# Altium footprint library WR-TBL_Spring Clamp_3.81mm.PcbLib: 32 footprints (part 1 of 2)
Each footprint in its own frame and in the unit in brackets; x right, y up, seen from the top. Pads: shape width x height; smd on the part's side, far side on the other; paste and mask are expansions set on the pad; w line width, h text height; cw(c..) or ccw(c..) is an arc to the next point about the centre after c.
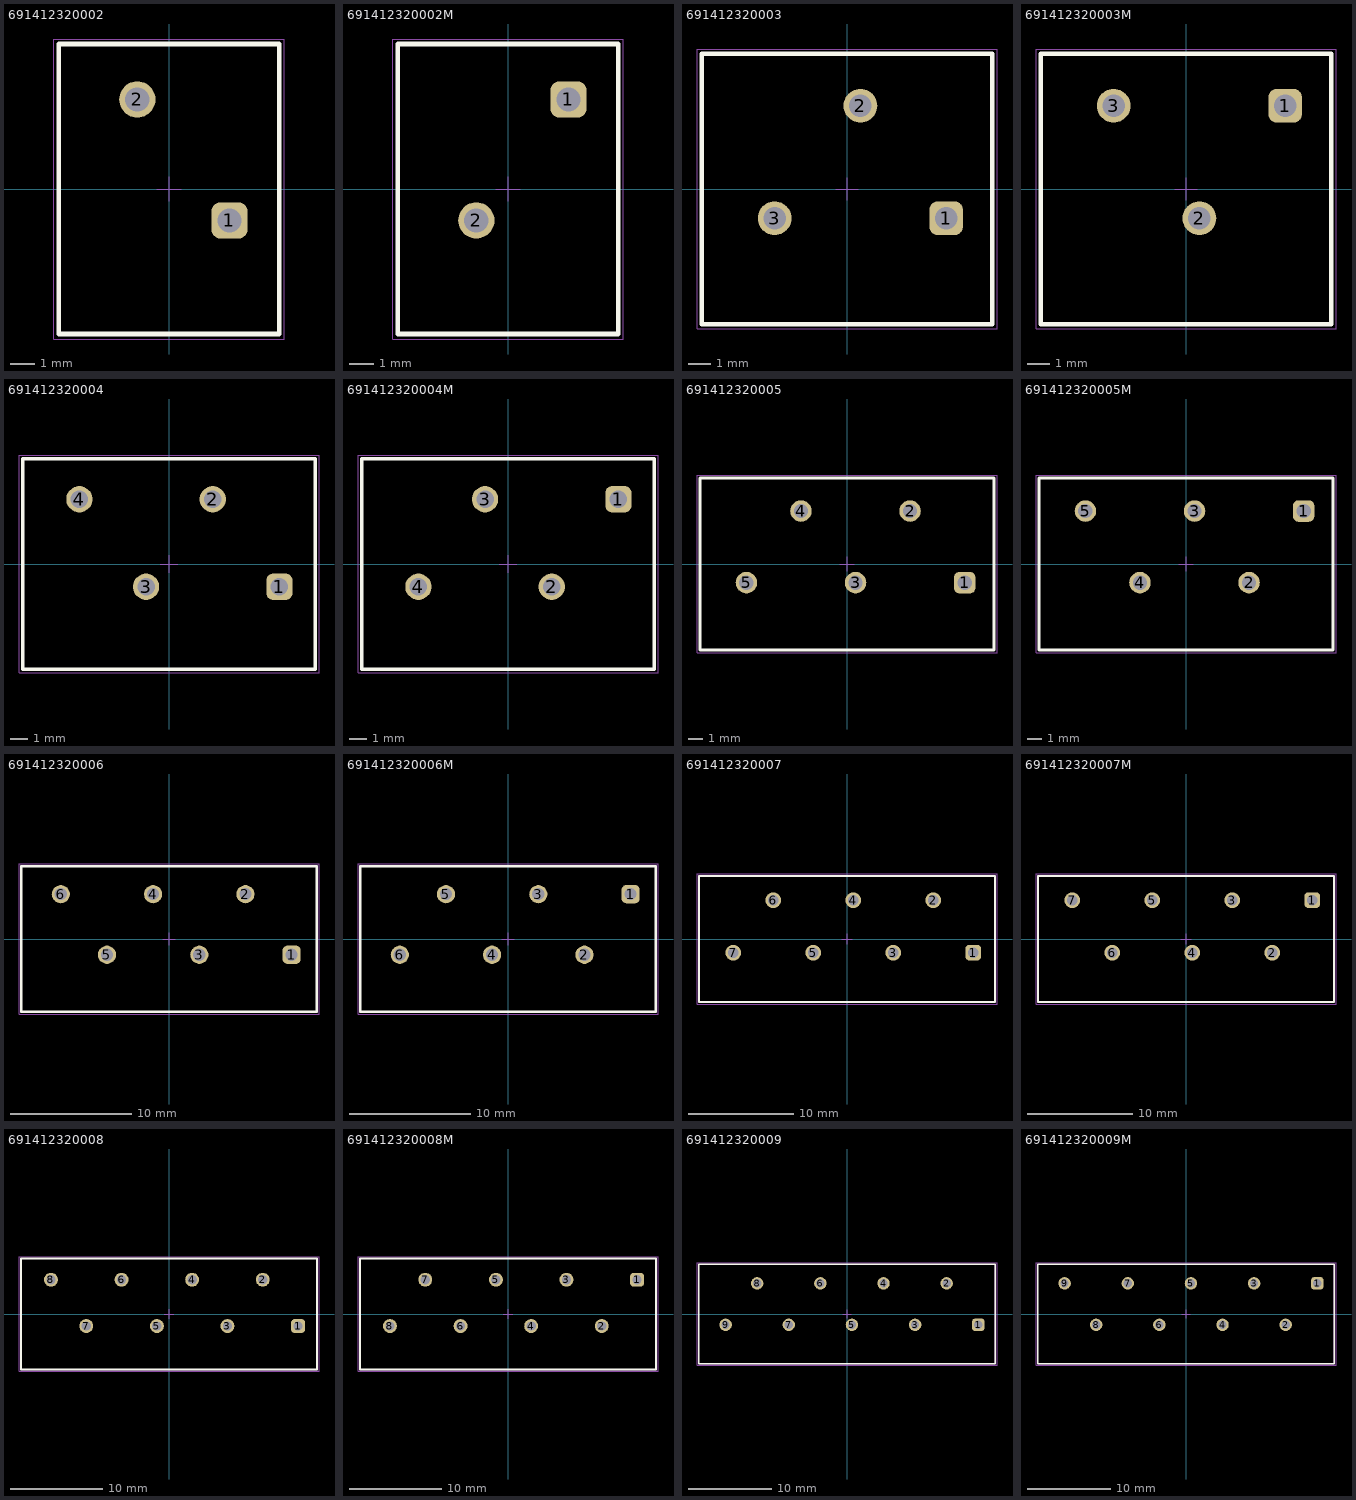
[diagram p0: the footprints below, top view; thin cyan lines are the x and y axes]

## 691412320002 [mm] "3.81mm 45¡ã Cable Entry Screwless, 2p"
height 13.2
pads (2):
  rrect50% 1.5x1.5 hole 1: 1(2.5,-1.3)
  round 1.5 hole 1: 2(-1.31,3.7)
Top Overlay:
  lines w0.2: -4.56,-6 4.56,-6 4.56,6 -4.56,6 -4.56,-6
Top Designator:
  text ".Designator" at -7.498,-0.5 h1.5
Top Component Outline:
  lines w0.1: -4.56,-6 -4.56,6 4.56,6 4.56,-6 -4.56,-6
Top 3D Body:
  lines w0.1: -4.56,-6 4.56,-6 4.56,6 -4.56,6 -4.56,-6
Top Courtyard:
  lines w0.05: -0.5,0 0.5,0 ; 0,-0.5 0,0.5 ; -4.76,-6.2 -4.76,6.2 4.76,6.2 4.76,-6.2 -4.76,-6.2
3D body "691412320002.stp": height 13.28, standoff -3.52, extent -4.56,-6 4.56,6

## 691412320002M [mm] "3.81 mm Screwless 45¡ã Entry, 2p"
height 13.2
pads (2):
  rrect50% 1.5x1.5 hole 1: 1(2.5,3.7)
  round 1.5 hole 1: 2(-1.31,-1.3)
Top Overlay:
  lines w0.2: -4.56,-6 4.56,-6 4.56,6 -4.56,6 -4.56,-6
Top Designator:
  text ".Designator" at -7.498,-0.5 h1.5
Top Component Outline:
  lines w0.1: -4.56,-6 -4.56,6 4.56,6 4.56,-6 -4.56,-6
Top 3D Body:
  lines w0.1: -4.56,-6 4.56,-6 4.56,6 -4.56,6 -4.56,-6
Top Courtyard:
  lines w0.05: -0.5,0 0.5,0 ; 0,-0.5 0,0.5 ; -4.76,-6.2 -4.76,6.2 4.76,6.2 4.76,-6.2 -4.76,-6.2
3D body "691412320002M.stp": height 13.28, standoff -3.52, extent -4.56,-6 4.56,6

## 691412320003 [mm] "3.81mm 45¡ã Cable Entry Screwless, 3p"
height 13.2
pads (3):
  rrect50% 1.5x1.5 hole 1: 1(4.405,-1.3)
  round 1.5 hole 1: 2(0.595,3.7) 3(-3.215,-1.3)
Top Overlay:
  lines w0.2: -6.465,-6 6.465,-6 6.465,6 -6.465,6 -6.465,-6
Top Designator:
  text ".Designator" at -7.498,-0.5 h1.5
Top Component Outline:
  lines w0.1: -6.465,-6 -6.465,6 6.465,6 6.465,-6 -6.465,-6
Top 3D Body:
  lines w0.1: -6.465,-6 6.465,-6 6.465,6 -6.465,6 -6.465,-6
Top Courtyard:
  lines w0.05: -0.5,0 0.5,0 ; 0,-0.5 0,0.5 ; -6.665,-6.2 -6.665,6.2 6.665,6.2 6.665,-6.2 -6.665,-6.2
3D body "691412320003.stp": height 13.28, standoff -3.52, extent -6.465,-6 6.465,6

## 691412320003M [mm] "3.81 mm Screwless 45¡ã Entry, 3p"
height 13.2
pads (3):
  rrect50% 1.5x1.5 hole 1: 1(4.405,3.7)
  round 1.5 hole 1: 2(0.595,-1.3) 3(-3.215,3.7)
Top Overlay:
  lines w0.2: -6.465,-6 -6.465,6 6.465,6 6.465,-6 -6.465,-6
Top Designator:
  text ".Designator" at -7.498,-0.5 h1.5
Top Component Outline:
  lines w0.1: -6.465,-6 6.465,-6 6.465,6 -6.465,6 -6.465,-6
Top 3D Body:
  lines w0.1: -6.465,-6 -6.465,6 6.465,6 6.465,-6 -6.465,-6
Top Courtyard:
  lines w0.05: -0.5,0 0.5,0 ; 0,-0.5 0,0.5 ; -6.665,-6.2 6.665,-6.2 6.665,6.2 -6.665,6.2 -6.665,-6.2
3D body "691412320003M.stp": height 13.28, standoff -3.52, extent -6.465,-6 6.465,6

## 691412320004 [mm] "3.81mm 45¡ã Cable Entry Screwless, 4p"
height 13.2
pads (4):
  rrect50% 1.5x1.5 hole 1: 1(6.31,-1.3)
  round 1.5 hole 1: 2(2.5,3.7) 3(-1.31,-1.3) 4(-5.12,3.7)
Top Overlay:
  lines w0.2: -8.37,-6 8.37,-6 8.37,6 -8.37,6 -8.37,-6
Top Designator:
  text ".Designator" at -7.498,-0.5 h1.5
Top Component Outline:
  lines w0.1: -8.37,-6 -8.37,6 8.37,6 8.37,-6 -8.37,-6
Top 3D Body:
  lines w0.1: -8.37,-6 8.37,-6 8.37,6 -8.37,6 -8.37,-6
Top Courtyard:
  lines w0.05: -0.5,0 0.5,0 ; 0,-0.5 0,0.5 ; -8.57,-6.2 -8.57,6.2 8.57,6.2 8.57,-6.2 -8.57,-6.2
3D body "691412320004.stp": height 13.28, standoff -3.52, extent -8.37,-6 8.37,6

## 691412320004M [mm] "3.81 mm Screwless 45¡ã Entry, 4p"
height 13.2
pads (4):
  rrect50% 1.5x1.5 hole 1: 1(6.31,3.7)
  round 1.5 hole 1: 2(2.5,-1.3) 3(-1.31,3.7) 4(-5.12,-1.3)
Top Overlay:
  lines w0.2: -8.37,-6 8.37,-6 8.37,6 -8.37,6 -8.37,-6
Top Designator:
  text ".Designator" at -7.498,-0.5 h1.5
Top Component Outline:
  lines w0.1: -8.37,-6 -8.37,6 8.37,6 8.37,-6 -8.37,-6
Top 3D Body:
  lines w0.1: -8.37,-6 8.37,-6 8.37,6 -8.37,6 -8.37,-6
Top Courtyard:
  lines w0.05: -0.5,0 0.5,0 ; 0,-0.5 0,0.5 ; -8.57,-6.2 -8.57,6.2 8.57,6.2 8.57,-6.2 -8.57,-6.2
3D body "691412320004M.stp": height 13.28, standoff -3.52, extent -8.37,-6 8.37,6

## 691412320005 [mm] "3.81mm 45¡ã Cable Entry Screwless, 5p"
height 13.2
pads (5):
  rrect50% 1.5x1.5 hole 1: 1(8.215,-1.3)
  round 1.5 hole 1: 2(4.405,3.7) 3(0.595,-1.3) 4(-3.215,3.7) 5(-7.025,-1.3)
Top Overlay:
  lines w0.2: -10.275,-6 -10.275,6 10.275,6 10.275,-6 -10.275,-6
Top Designator:
  text ".Designator" at -7.498,-0.5 h1.5
Top Component Outline:
  lines w0.1: -10.275,-6 10.275,-6 10.275,6 -10.275,6 -10.275,-6
Top 3D Body:
  lines w0.1: -10.275,-6 -10.275,6 10.275,6 10.275,-6 -10.275,-6
Top Courtyard:
  lines w0.05: -0.5,0 0.5,0 ; 0,-0.5 0,0.5 ; -10.475,-6.2 10.475,-6.2 10.475,6.2 -10.475,6.2 -10.475,-6.2
3D body "691412320005.stp": height 13.28, standoff -3.52, extent -10.275,-6 10.275,6

## 691412320005M [mm] "3.81 mm Screwless 45¡ã Entry, 5p"
height 13.2
pads (5):
  rrect50% 1.5x1.5 hole 1: 1(8.215,3.7)
  round 1.5 hole 1: 2(4.405,-1.3) 3(0.595,3.7) 4(-3.215,-1.3) 5(-7.025,3.7)
Top Overlay:
  lines w0.2: -10.275,-6 -10.275,6 10.275,6 10.275,-6 -10.275,-6
Top Designator:
  text ".Designator" at -7.498,-0.5 h1.5
Top Component Outline:
  lines w0.1: -10.275,-6 10.275,-6 10.275,6 -10.275,6 -10.275,-6
Top 3D Body:
  lines w0.1: -10.275,-6 -10.275,6 10.275,6 10.275,-6 -10.275,-6
Top Courtyard:
  lines w0.05: -0.5,0 0.5,0 ; 0,-0.5 0,0.5 ; -10.475,-6.2 10.475,-6.2 10.475,6.2 -10.475,6.2 -10.475,-6.2
3D body "691412320005M.stp": height 13.28, standoff -3.52, extent -10.275,-6 10.275,6

## 691412320006 [mm] "3.81mm 45¡ã Cable Entry Screwless, 6p"
height 13.2
pads (6):
  rrect50% 1.5x1.5 hole 1: 1(10.12,-1.3)
  round 1.5 hole 1: 2(6.31,3.7) 3(2.5,-1.3) 4(-1.31,3.7) 5(-5.12,-1.3) 6(-8.93,3.7)
Top Overlay:
  lines w0.2: -12.18,-6 12.18,-6 12.18,6 -12.18,6 -12.18,-6
Top Designator:
  text ".Designator" at -7.498,-0.5 h1.5
Top Component Outline:
  lines w0.1: -12.18,-6 -12.18,6 12.18,6 12.18,-6 -12.18,-6
Top 3D Body:
  lines w0.1: -12.18,-6 12.18,-6 12.18,6 -12.18,6 -12.18,-6
Top Courtyard:
  lines w0.05: -0.5,0 0.5,0 ; 0,-0.5 0,0.5 ; -12.38,-6.2 -12.38,6.2 12.38,6.2 12.38,-6.2 -12.38,-6.2
3D body "691412320006.stp": height 13.28, standoff -3.52, extent -12.18,-6 12.18,6

## 691412320006M [mm] "3.81 mm Screwless 45¡ã Entry, 6p"
height 13.2
pads (6):
  rrect50% 1.5x1.5 hole 1: 1(10.12,3.7)
  round 1.5 hole 1: 2(6.31,-1.3) 3(2.5,3.7) 4(-1.31,-1.3) 5(-5.12,3.7) 6(-8.93,-1.3)
Top Overlay:
  lines w0.2: -12.18,-6 12.18,-6 12.18,6 -12.18,6 -12.18,-6
Top Designator:
  text ".Designator" at -7.498,-0.5 h1.5
Top Component Outline:
  lines w0.1: -12.18,-6 -12.18,6 12.18,6 12.18,-6 -12.18,-6
Top 3D Body:
  lines w0.1: -12.18,-6 12.18,-6 12.18,6 -12.18,6 -12.18,-6
Top Courtyard:
  lines w0.05: -0.5,0 0.5,0 ; 0,-0.5 0,0.5 ; -12.38,-6.2 -12.38,6.2 12.38,6.2 12.38,-6.2 -12.38,-6.2
3D body "691412320006M.stp": height 13.28, standoff -3.52, extent -12.18,-6 12.18,6

## 691412320007 [mm] "3.81mm 45¡ã Cable Entry Screwless, 7p"
height 13.2
pads (7):
  rrect50% 1.5x1.5 hole 1: 1(12.025,-1.3)
  round 1.5 hole 1: 2(8.215,3.7) 3(4.405,-1.3) 4(0.595,3.7) 5(-3.215,-1.3) 6(-7.025,3.7) 7(-10.835,-1.3)
Top Overlay:
  lines w0.2: -14.085,-6 14.085,-6 14.085,6 -14.085,6 -14.085,-6
Top Designator:
  text ".Designator" at -7.498,-0.5 h1.5
Top Component Outline:
  lines w0.1: -14.085,-6 -14.085,6 14.085,6 14.085,-6 -14.085,-6
Top 3D Body:
  lines w0.1: -14.085,-6 14.085,-6 14.085,6 -14.085,6 -14.085,-6
Top Courtyard:
  lines w0.05: -0.5,0 0.5,0 ; 0,-0.5 0,0.5 ; -14.285,-6.2 -14.285,6.2 14.285,6.2 14.285,-6.2 -14.285,-6.2
3D body "691412320007.stp": height 13.28, standoff -3.52, extent -14.085,-6 14.085,6

## 691412320007M [mm] "3.81 mm Screwless 45¡ã Entry, 7p"
height 13.2
pads (7):
  rrect50% 1.5x1.5 hole 1: 1(12.025,3.7)
  round 1.5 hole 1: 2(8.215,-1.3) 3(4.405,3.7) 4(0.595,-1.3) 5(-3.215,3.7) 6(-7.025,-1.3) 7(-10.835,3.7)
Top Overlay:
  lines w0.2: -14.085,-6 14.085,-6 14.085,6 -14.085,6 -14.085,-6
Top Designator:
  text ".Designator" at -7.498,-0.5 h1.5
Top Component Outline:
  lines w0.1: -14.085,-6 -14.085,6 14.085,6 14.085,-6 -14.085,-6
Top 3D Body:
  lines w0.1: -14.085,-6 14.085,-6 14.085,6 -14.085,6 -14.085,-6
Top Courtyard:
  lines w0.05: -0.5,0 0.5,0 ; 0,-0.5 0,0.5 ; -14.285,-6.2 -14.285,6.2 14.285,6.2 14.285,-6.2 -14.285,-6.2
3D body "691412320007M.stp": height 13.28, standoff -3.52, extent -14.085,-6 14.085,6

## 691412320008 [mm] "3.81mm 45¡ã Cable Entry Screwless, 8p"
height 13.2
pads (8):
  rrect50% 1.5x1.5 hole 1: 1(13.93,-1.3)
  round 1.5 hole 1: 2(10.12,3.7) 3(6.31,-1.3) 4(2.5,3.7) 5(-1.31,-1.3) 6(-5.12,3.7) 7(-8.93,-1.3) 8(-12.74,3.7)
Top Overlay:
  lines w0.2: -15.99,-6 15.99,-6 15.99,6 -15.99,6 -15.99,-6
Top Designator:
  text ".Designator" at -7.498,-0.5 h1.5
Top Component Outline:
  lines w0.1: -15.99,-6 -15.99,6 15.99,6 15.99,-6 -15.99,-6
Top 3D Body:
  lines w0.1: -15.99,-6 15.99,-6 15.99,6 -15.99,6 -15.99,-6
Top Courtyard:
  lines w0.05: -0.5,0 0.5,0 ; 0,-0.5 0,0.5 ; -16.19,-6.2 -16.19,6.2 16.19,6.2 16.19,-6.2 -16.19,-6.2
3D body "691412320008.stp": height 13.28, standoff -3.52, extent -15.99,-6 15.99,6

## 691412320008M [mm] "3.81 mm Screwless 45¡ã Entry, 8p"
height 13.2
pads (8):
  rrect50% 1.5x1.5 hole 1: 1(13.93,3.7)
  round 1.5 hole 1: 2(10.12,-1.3) 3(6.31,3.7) 4(2.5,-1.3) 5(-1.31,3.7) 6(-5.12,-1.3) 7(-8.93,3.7) 8(-12.74,-1.3)
Top Overlay:
  lines w0.2: -15.99,-6 -15.99,6 15.99,6 15.99,-6 -15.99,-6
Top Designator:
  text ".Designator" at -7.498,-0.5 h1.5
Top Component Outline:
  lines w0.1: -15.99,-6 15.99,-6 15.99,6 -15.99,6 -15.99,-6
Top 3D Body:
  lines w0.1: -15.99,-6 -15.99,6 15.99,6 15.99,-6 -15.99,-6
Top Courtyard:
  lines w0.05: -0.5,0 0.5,0 ; 0,-0.5 0,0.5 ; -16.19,-6.2 16.19,-6.2 16.19,6.2 -16.19,6.2 -16.19,-6.2
3D body "691412320008M.stp": height 13.28, standoff -3.52, extent -15.99,-6 15.99,6

## 691412320009 [mm] "3.81mm 45¡ã Cable Entry Screwless, 9p"
height 13.2
pads (9):
  rrect50% 1.5x1.5 hole 1: 1(15.835,-1.3)
  round 1.5 hole 1: 2(12.025,3.7) 3(8.215,-1.3) 4(4.405,3.7) 5(0.595,-1.3) 6(-3.215,3.7) 7(-7.025,-1.3) 8(-10.835,3.7) 9(-14.645,-1.3)
Top Overlay:
  lines w0.2: -17.895,-6 17.895,-6 17.895,6 -17.895,6 -17.895,-6
Top Designator:
  text ".Designator" at -7.498,-0.5 h1.5
Top Component Outline:
  lines w0.1: -17.895,-6 -17.895,6 17.895,6 17.895,-6 -17.895,-6
Top 3D Body:
  lines w0.1: -17.895,-6 17.895,-6 17.895,6 -17.895,6 -17.895,-6
Top Courtyard:
  lines w0.05: -0.5,0 0.5,0 ; 0,-0.5 0,0.5 ; -18.095,-6.2 -18.095,6.2 18.095,6.2 18.095,-6.2 -18.095,-6.2
3D body "691412320009.stp": height 13.28, standoff -3.52, extent -17.895,-6 17.895,6

## 691412320009M [mm] "3.81 mm Screwless 45¡ã Entry, 9p"
height 13.2
pads (9):
  rrect50% 1.5x1.5 hole 1: 1(15.835,3.7)
  round 1.5 hole 1: 2(12.025,-1.3) 3(8.215,3.7) 4(4.405,-1.3) 5(0.595,3.7) 6(-3.215,-1.3) 7(-7.025,3.7) 8(-10.835,-1.3) 9(-14.645,3.7)
Top Overlay:
  lines w0.2: -17.895,-6 17.895,-6 17.895,6 -17.895,6 -17.895,-6
Top Designator:
  text ".Designator" at -7.498,-0.5 h1.5
Top Component Outline:
  lines w0.1: -17.895,-6 -17.895,6 17.895,6 17.895,-6 -17.895,-6
Top 3D Body:
  lines w0.1: -17.895,-6 17.895,-6 17.895,6 -17.895,6 -17.895,-6
Top Courtyard:
  lines w0.05: -0.5,0 0.5,0 ; 0,-0.5 0,0.5 ; -18.095,-6.2 -18.095,6.2 18.095,6.2 18.095,-6.2 -18.095,-6.2
3D body "691412320009M.stp": height 13.28, standoff -3.52, extent -17.895,-6 17.895,6